# Altium schematic symbol library CD4075BE.SchLib: 1 symbol
Pins are listed as number, name and electrical type; pins without a type are passive.

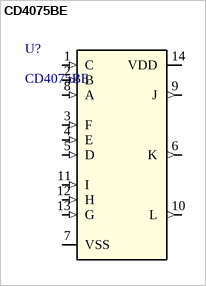
[diagram p0: symbol CD4075BE]

## CD4075BE
designator U?
No Description Available; Mfr_Name: Texas Instruments; Copyright: Copyright (C) 2023 Ultra Librarian. All rights reserved.; Manufacturer_Part_Number: CD4075BE; RefDes: RefDes; Type: DEV
footprint N14
pins: 1 C (in), 2 B (in), 3 F (in), 4 E (in), 5 D (in), 6 K (out), 7 VSS (power), 8 A (in), 9 J (out), 10 L (out), 11 I (in), 12 H (in), 13 G (in), 14 VDD (power)